# Altium schematic symbol library SOD_523_Package.SchLib: 1 symbol
Pins are listed as number, name and electrical type; pins without a type are passive.

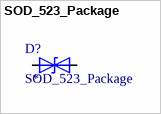
[diagram p0: symbol SOD_523_Package]

## SOD_523_Package
designator D?
SOD-523 Device ROHS; LCSC: *
footprint SOD_523_Package
pins: 1, 2